# EAGLE library part LTC3707 (library PowerProducts)
High Efficiency, 2-Phase Synchronous Step-Down Switching Regulator
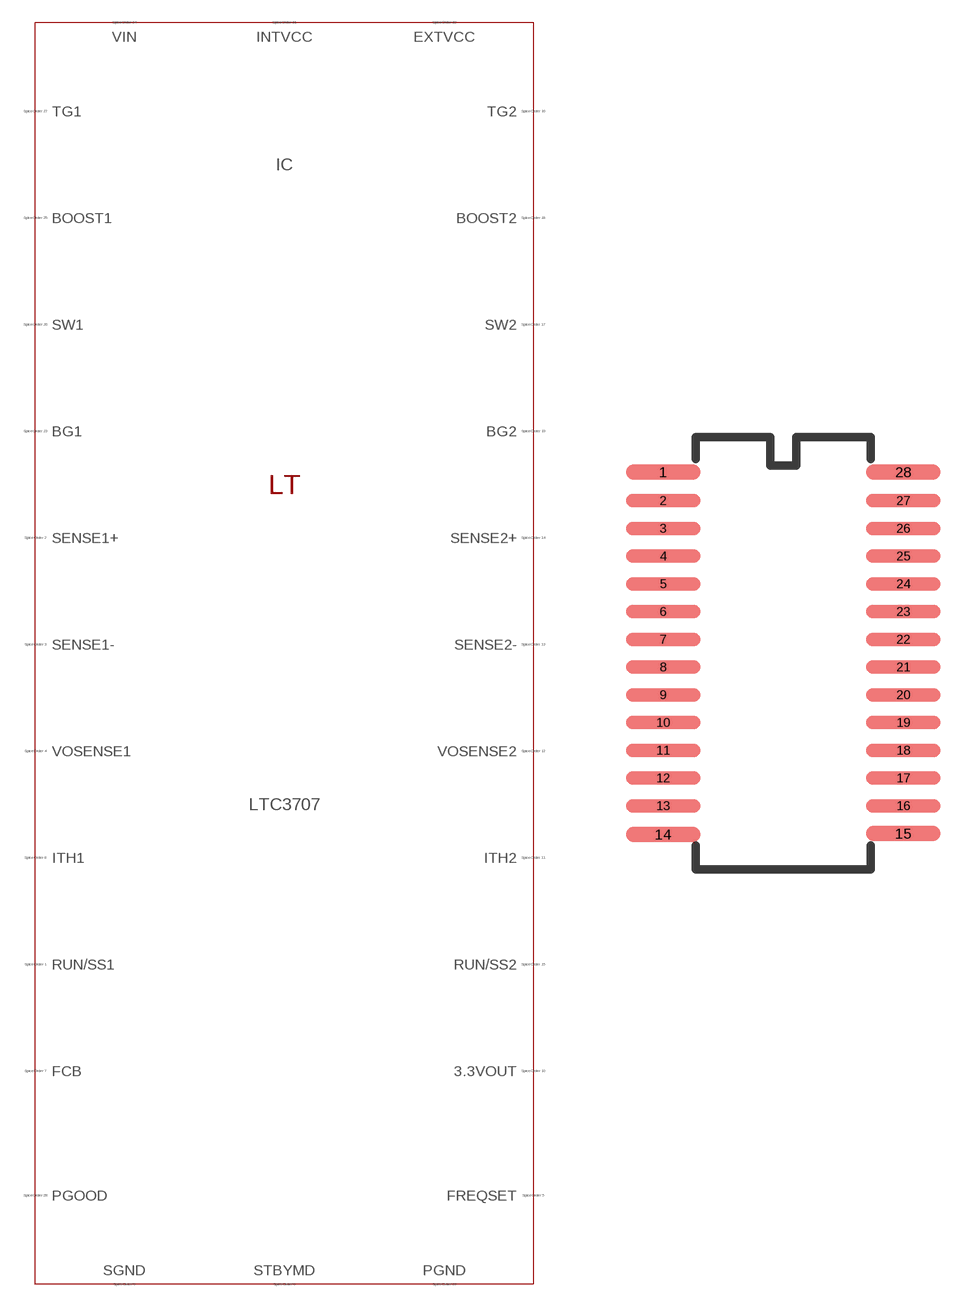
[diagram p287: symbol with the pads of SSOP28(GN); footprint SSOP28(GN)]

Designator prefix IC

## LTC3707 (SPICEMODEL: LTC1628-PG.sub; SPICEPREFIX: X; VALUE2: LTC1628-PG)  [SSOP28(GN)]
1  RUN/SS1  pas
2  SENSE1+  pas
3  SENSE1-  pas
4  VOSENSE1  pas
5  FREQSET  pas
6  STBYMD  pas
7  FCB  pas
8  ITH1  pas
9  SGND  pas
10  3.3VOUT  pas
11  ITH2  pas
12  VOSENSE2  pas
13  SENSE2-  pas
14  SENSE2+  pas
15  RUN/SS2  pas
16  TG2  pas
17  SW2  pas
18  BOOST2  pas
19  BG2  pas
20  PGND  pas
21  INTVCC  pas
22  EXTVCC  pas
23  BG1  pas
24  VIN  pas
25  BOOST1  pas
26  SW1  pas
27  TG1  pas
28  PGOOD  pas

## Footprint SSOP28(GN) (pad centres in mm)
Package generated from: SSOP28(GN).asc (!PADS-POWERPCB-V5.0-BASIC! DESIGN DATABASE ASCII FILE 1.0) with :import-pads-powerpcb-v5.ulp Version 1.0.1 at 04.10.2012 14:11:39
smd 2.55 x 0.525: 1 -4.123,6.221; 14 -4.123,-6.221; 15 4.123,-6.191; 28 4.123,6.221
smd 2.55 x 0.458: 2 -4.123,5.239; 3 -4.123,4.286; 4 -4.123,3.334; 5 -4.123,2.381; 6 -4.123,1.429; 7 -4.123,0.476; 8 -4.123,-0.476; 9 -4.123,-1.429; 10 -4.123,-2.381; 11 -4.123,-3.334; 12 -4.123,-4.286; 13 -4.123,-5.239; 16 4.123,-5.239; 17 4.123,-4.286; 18 4.123,-3.334; 19 4.123,-2.381; 20 4.123,-1.429; 21 4.123,-0.476; 22 4.123,0.476; 23 4.123,1.429; 24 4.123,2.381; 25 4.123,3.334; 26 4.123,4.286; 27 4.123,5.239